# EAGLE library part AT45DB161 (library memory-atmel)
FLASH MEMORY SPI bus serial
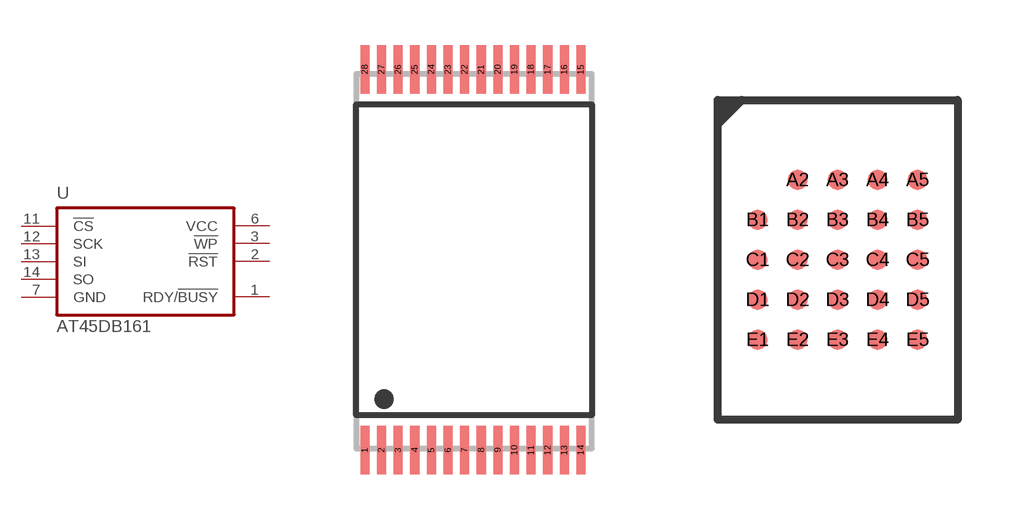
[diagram p3: symbol with the pads of TSOP28-1; footprints TSOP28-1, CBGA-24]

Designator prefix U

## AT45DB161  [TSOP28-1]
1  RDY/!BUSY!
2  !RST!
3  !WP!
6  VCC  pwr
7  GND  pwr
11  !CS!
12  SCK
13  SI
14  SO

## AT45DB161-B  [CBGA-24]
B2  SCK
B3  GND  pwr
B4  VCC  pwr
C2  !CS!
C3  RDY/!BUSY!
C4  !WP!
D2  SO
D3  SI
D4  !RST!

## Footprint TSOP28-1 (pad centres in mm)
TSOP28 - Type I body 11.8 x 8 mm
smd 0.3 x 1.6: 1 -3.81,-6.45; 2 -3.26,-6.45; 3 -2.71,-6.45; 4 -2.16,-6.45; 5 -1.61,-6.45; 6 -1.06,-6.45; 7 -0.51,-6.45; 8 0.04,-6.45; 9 0.59,-6.45; 10 1.14,-6.45; 11 1.69,-6.45; 12 2.24,-6.45; 13 2.79,-6.45; 14 3.34,-6.45; 15 3.34,6.15; 16 2.79,6.15; 17 2.24,6.15; 18 1.69,6.15; 19 1.14,6.15; 20 0.59,6.15; 21 0.04,6.15; 22 -0.51,6.15; 23 -1.06,6.15; 24 -1.61,6.15; 25 -2.16,6.15; 26 -2.71,6.15; 27 -3.26,6.15; 28 -3.81,6.15

## Footprint CBGA-24 (pad centres in mm)
CBGA-24
smd 0.5 x 0.5: A2 1,0; A3 2,0; A4 3,0; A5 4,0; B1 0,-1; B2 1,-1; B3 2,-1; B4 3,-1; B5 4,-1; C1 0,-2; C2 1,-2; C3 2,-2; C4 3,-2; C5 4,-2; D1 0,-3; D2 1,-3; D3 2,-3; D4 3,-3; D5 4,-3; E1 0,-4; E2 1,-4; E3 2,-4; E4 3,-4; E5 4,-4